# Altium footprint library DIP787W46P254L927H533Q8.PcbLib: 1 footprints
Each footprint in its own frame and in the unit in brackets; x right, y up, seen from the top. Pads: shape width x height; smd on the part's side, far side on the other; paste and mask are expansions set on the pad; w line width, h text height; cw(c..) or ccw(c..) is an arc to the next point about the centre after c.
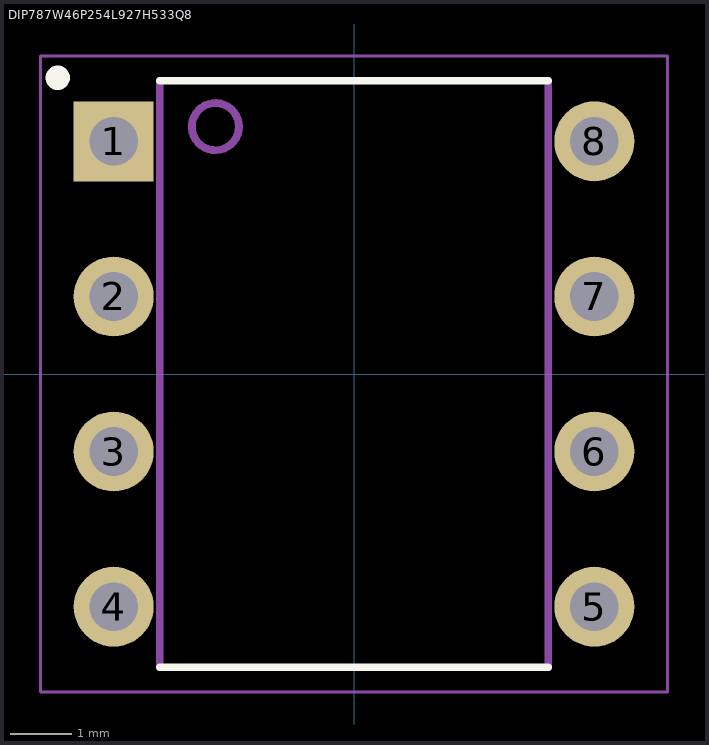
[diagram p0: the footprint, top view; thin cyan lines are the x and y axes]

## DIP787W46P254L927H533Q8 [mm]
pads (8):
  rect 1.308x1.308 hole 0.8: 1(-3.935,3.81)
  round 1.308 hole 0.8: 2(-3.935,1.27) 3(-3.935,-1.27) 4(-3.935,-3.81) 5(3.935,-3.81) 6(3.935,-1.27) 7(3.935,1.27) 8(3.935,3.81)
Top Overlay:
  circle w0.2: c-4.85,4.85 r0.1
  lines w0.127: -3.18,-4.8 3.18,-4.8 ; -3.18,4.8 3.18,4.8
Mechanical 13:
  circle w0.127: c-2.27,4.05 r0.386
  lines w0.127: -3.18,-4.8 -3.18,4.8 ; 3.18,-4.8 3.18,4.8
Mechanical 15:
  lines w0.05: -5.13,-5.21 5.13,-5.21 5.13,5.21 -5.13,5.21 -5.13,-5.21